# EAGLE library part DRV8824 (library cvogel)
Texas Instruments DRV8824 Texas Instruments DRV8824 Stepper Motor Controller IC 8.2-V to 45-V Operating Supply Voltage Range 1.6-A Maximum Drive Current at 24 V
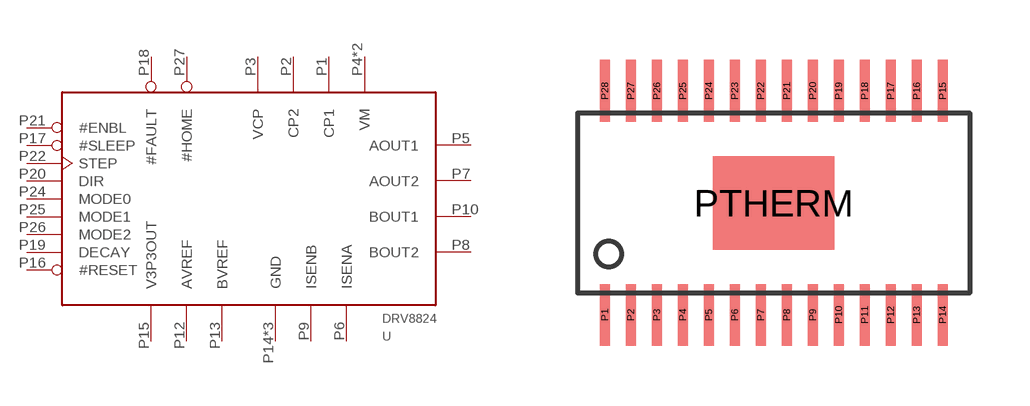
[diagram p4: symbol with the pads of R-PDSO-G28; footprint R-PDSO-G28]

Designator prefix -

## DRV8824  [R-PDSO-G28]
P1  CP1
P2  CP2
P3  VCP
P4  VM  pwr
P5  AOUT1  out
P6  ISENA
P7  AOUT2  out
P8  BOUT2  out
P9  ISENB
P10  BOUT1  out
P11  VM  pwr
P12  AVREF
P13  BVREF
P14  GND  pwr
P15  V3P3OUT
P16  #RESET  in
P17  #SLEEP  in
P18  #FAULT  oc
P19  DECAY  in
P20  DIR  in
P21  #ENBL  in
P22  STEP  in
P24  MODE0
P25  MODE1  in
P26  MODE2  in
P27  #HOME  oc
P28  GND  pwr
PTHERM  GND  pwr

## Footprint R-PDSO-G28 (pad centres in mm)
TI PWP (R-PDSO-G28) Texas Instruments PowerPad(tm) Plastic Small Outline PWP (R-PDSO-G28)
smd 0.25 x 1.55: P1 -4.225,-2.8; P2 -3.575,-2.8; P3 -2.925,-2.8; P4 -2.275,-2.8; P5 -1.625,-2.8; P6 -0.975,-2.8; P7 -0.325,-2.8; P8 0.325,-2.8; P9 0.975,-2.8; P10 1.625,-2.8; P11 2.275,-2.8; P12 2.925,-2.8; P13 3.575,-2.8; P14 4.225,-2.8; P15 4.225,2.8; P16 3.575,2.8; P17 2.925,2.8; P18 2.275,2.8; P19 1.625,2.8; P20 0.975,2.8; P21 0.325,2.8; P22 -0.325,2.8; P23 -0.975,2.8; P24 -1.625,2.8; P25 -2.275,2.8; P26 -2.925,2.8; P27 -3.575,2.8; P28 -4.225,2.8
smd 3.04 x 2.34: PTHERM 0,0